# Altium footprint library CAPAE530X550_N.PcbLib: 1 footprints
Each footprint in its own frame and in the unit in brackets; x right, y up, seen from the top. Pads: shape width x height; smd on the part's side, far side on the other; paste and mask are expansions set on the pad; w line width, h text height; cw(c..) or ccw(c..) is an arc to the next point about the centre after c.
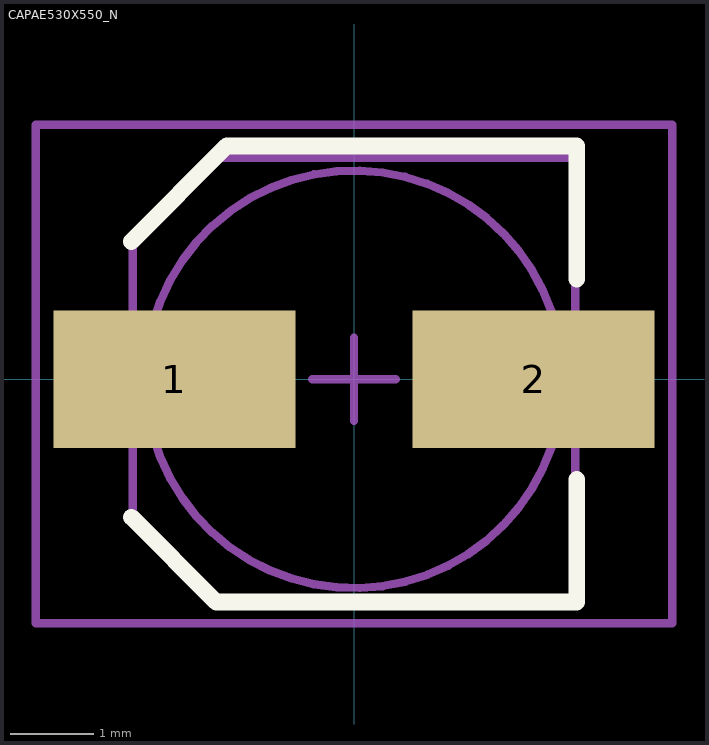
[diagram p0: the footprint, top view; thin cyan lines are the x and y axes]

## CAPAE530X550_N [mm]
height 7.7
pads (2):
  rect 2.9x1.65 smd: 1(-2.15,0) 2(2.15,0)
Top Overlay:
  lines w0.2: -2.667,-1.651 -1.651,-2.667 2.667,-2.667 2.667,-1.2 ; -2.667,1.651 -1.524,2.794 2.667,2.794 2.667,1.2
Mechanical 13:
  circle w0.1: c0,0 r2.5
  lines w0.1: -2.65,-1.651 -2.65,1.651 -1.651,2.65 2.65,2.65 2.65,-2.65 -1.651,-2.65 -2.65,-1.651
Mechanical 15:
  lines w0.1: -0.5,0 0.5,0 ; 0,-0.5 0,0.5 ; -3.81,-2.921 -3.81,3.048 3.81,3.048 3.81,-2.921 -3.81,-2.921
3D body: height 5.9, standoff -0.05, extent -3,-2.65 3,2.65